# Altium schematic symbol library BUTTON-PUSH.SchLib: 1 symbol
Pins are listed as number, name and electrical type; pins without a type are passive.

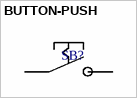
[diagram p0: symbol BUTTON-PUSH]

## BUTTON-PUSH
designator SB?
pins: 1  , 2  